# Altium integrated library Altera Cyclone IV E.IntLib: 141 symbols (part 27 of 33)

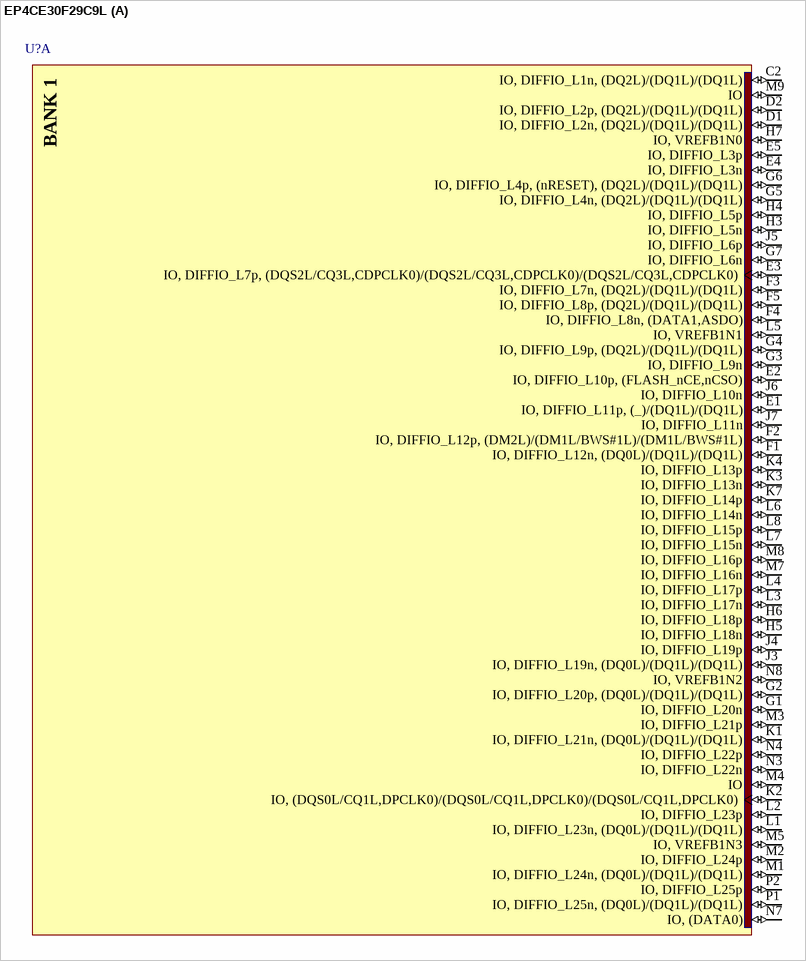
[diagram p144: symbol EP4CE30F29C9L]

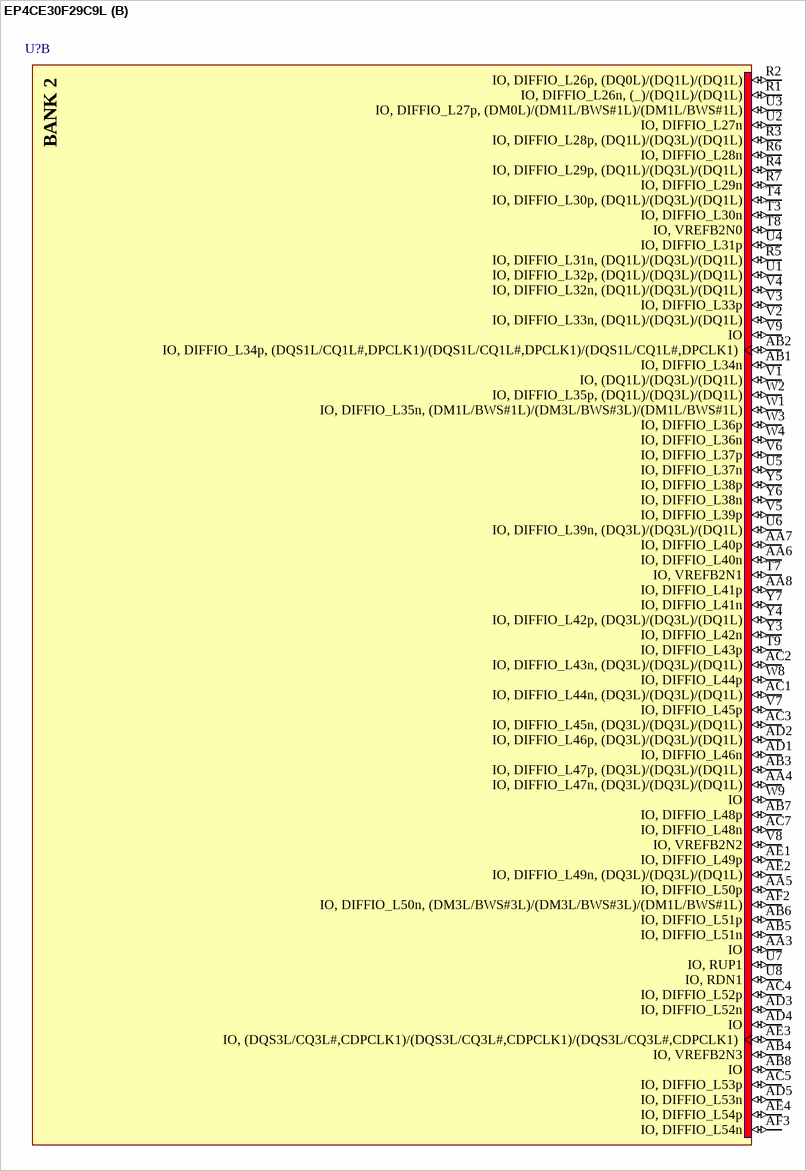
[diagram p145: symbol EP4CE30F29C9L]

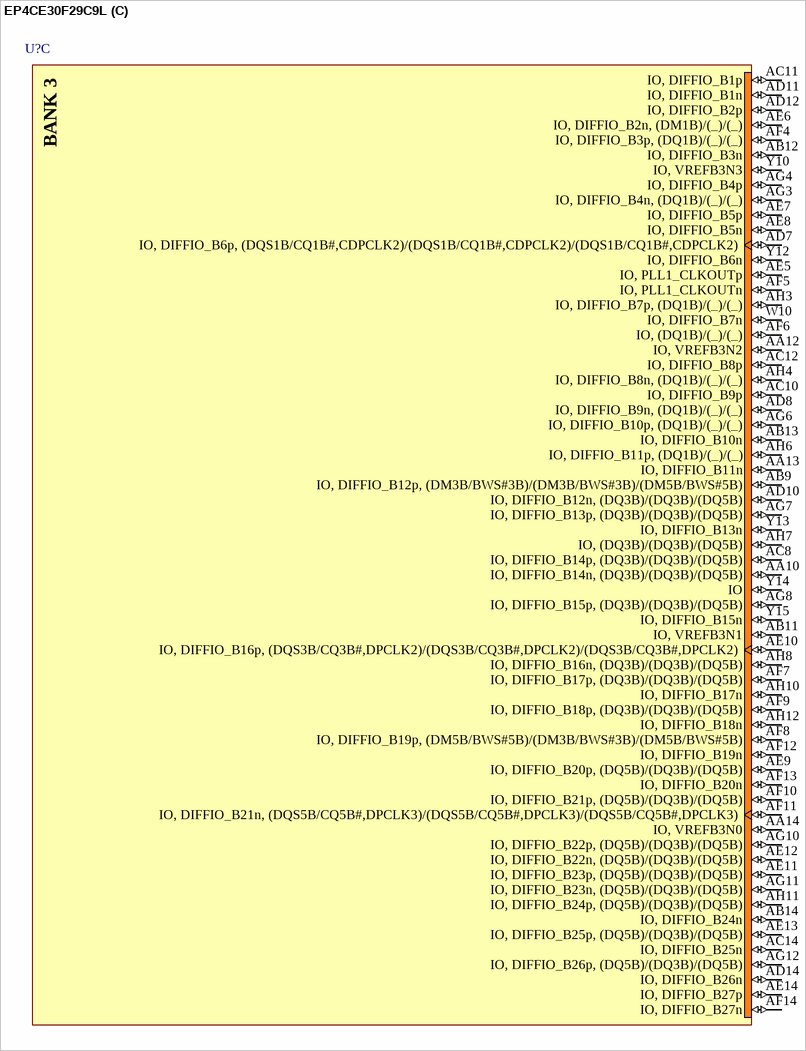
[diagram p146: symbol EP4CE30F29C9L]

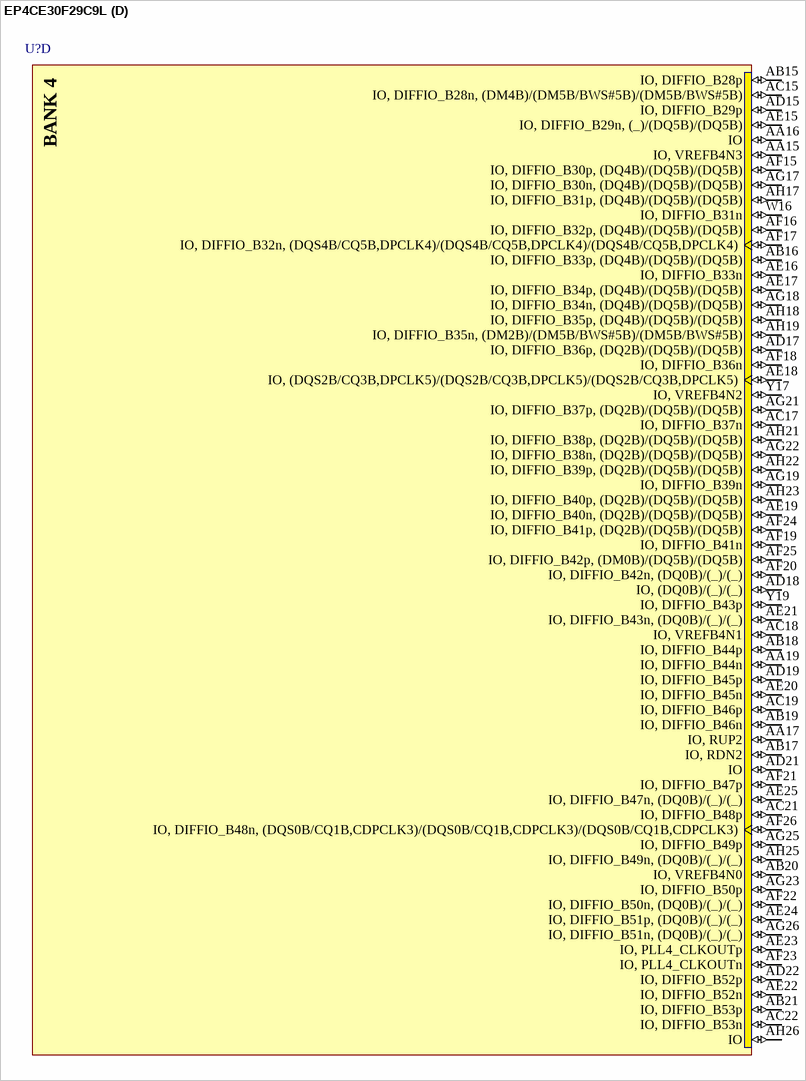
[diagram p147: symbol EP4CE30F29C9L]

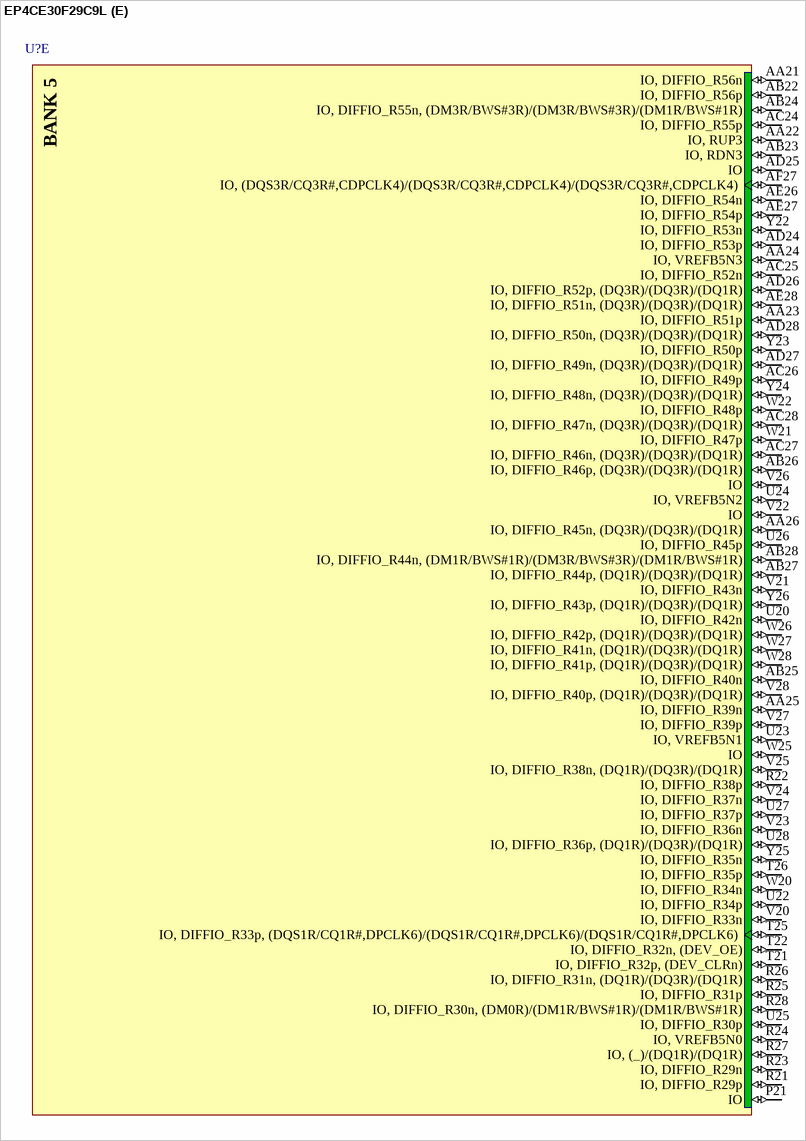
[diagram p148: symbol EP4CE30F29C9L]

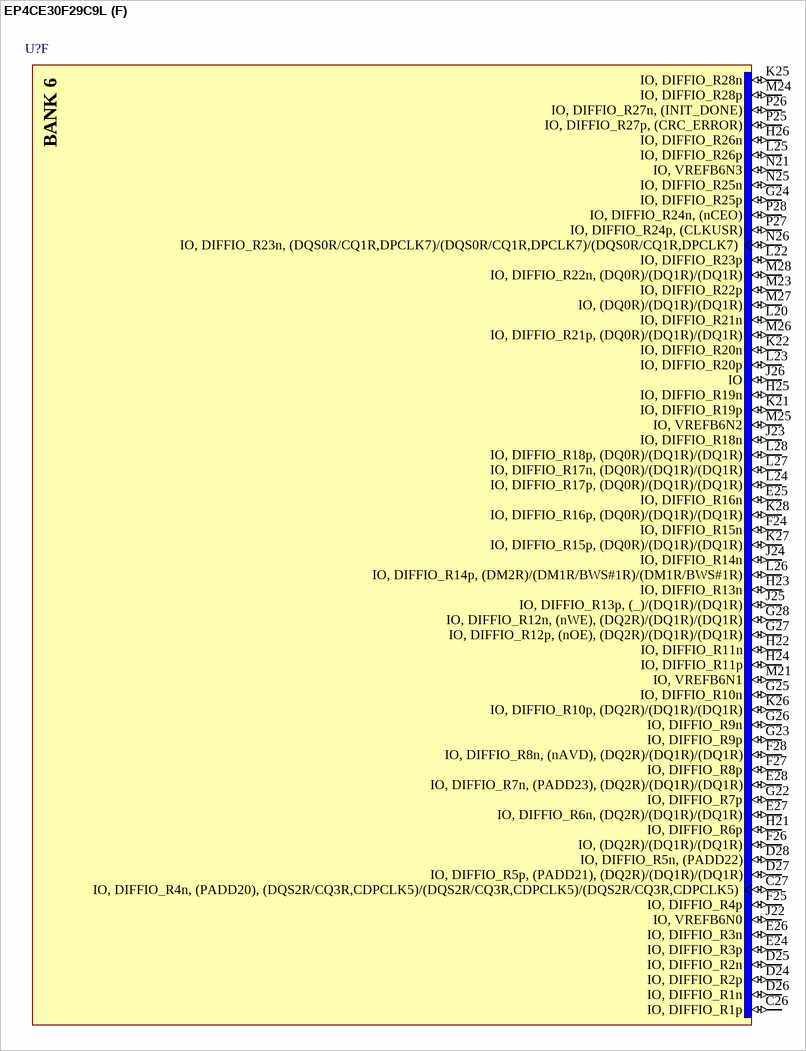
[diagram p149: symbol EP4CE30F29C9L]

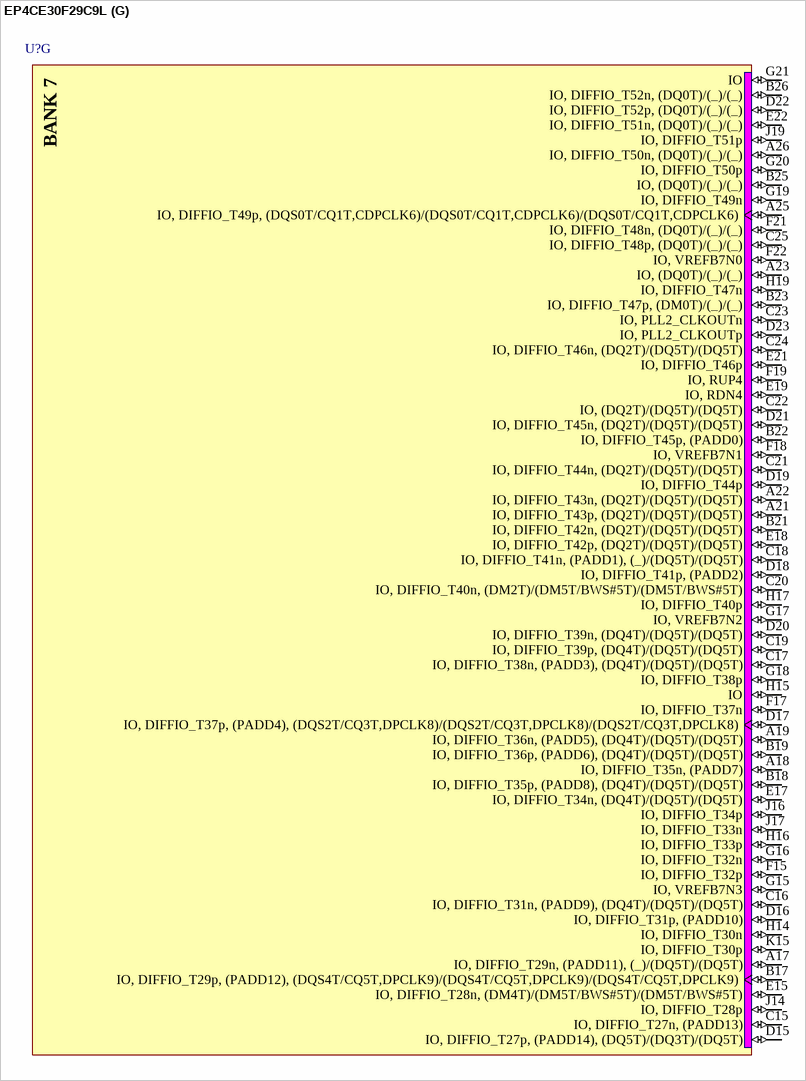
[diagram p150: symbol EP4CE30F29C9L]

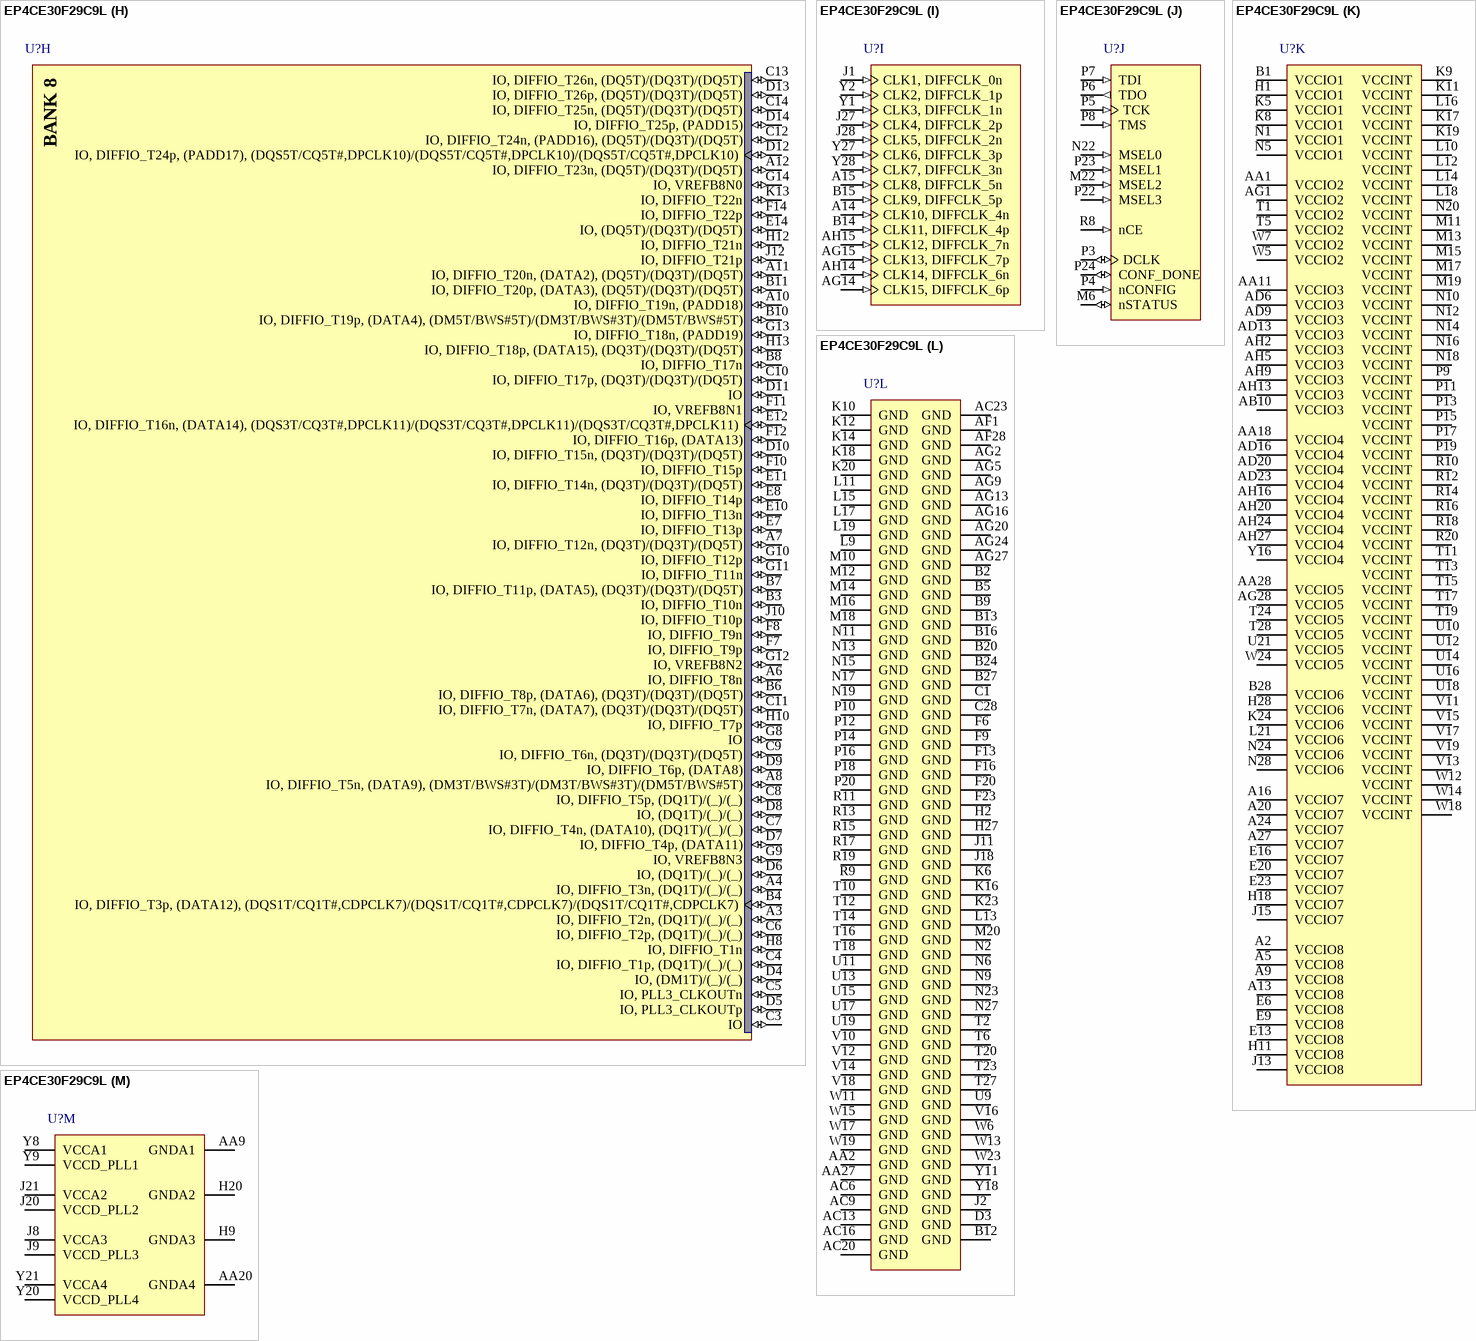
[diagram p151: symbol EP4CE30F29C9L]